# EAGLE library part TL072 (library uBraids_SE_Library)
OP AMP
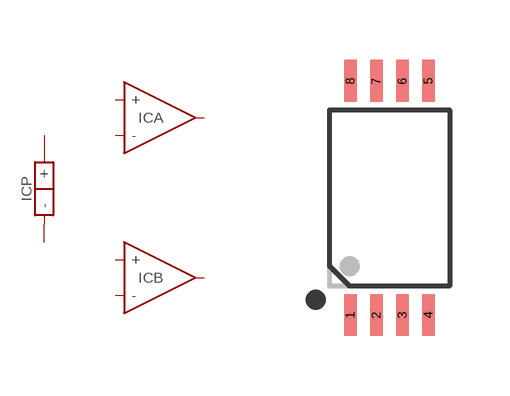
[diagram p4: symbol with the pads of TSSOP-8; footprint TSSOP-8]

Designator prefix IC; gates A=OPAMP B=OPAMP P=POWER

## TL072-TSSOP-8  [TSSOP-8]
1  A:OUT  out
2  A:-  in
3  A:+  in
4  P:-
5  B:+  in
6  B:-  in
7  B:OUT  out
8  P:+

## Footprint TSSOP-8 (pad centres in mm)
smd 0.32 x 1.05: 1 -0.975,-2.925; 2 -0.325,-2.925; 3 0.325,-2.925; 4 0.975,-2.925; 5 0.975,2.925; 6 0.325,2.925; 7 -0.325,2.925; 8 -0.975,2.925